# Altium footprint library ch9329.PcbLib: 1 footprints
Each footprint in its own frame and in the unit in brackets; x right, y up, seen from the top. Pads: shape width x height; smd on the part's side, far side on the other; paste and mask are expansions set on the pad; w line width, h text height; cw(c..) or ccw(c..) is an arc to the next point about the centre after c.
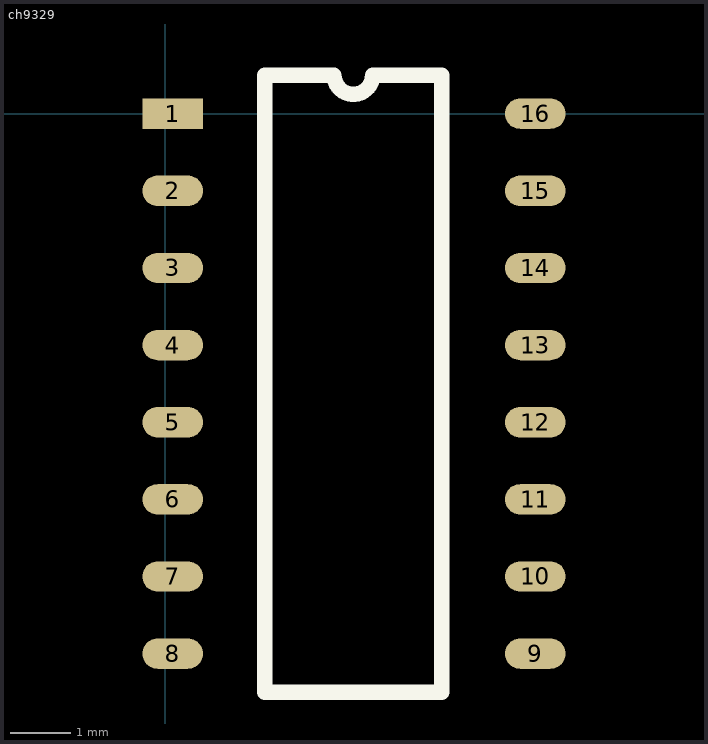
[diagram p0: the footprint, top view; thin cyan lines are the x and y axes]

## ch9329 [mm]
pads (16):
  rect 1x0.5 smd: 1(0.127,0)
  oval 1x0.5 smd: 2(0.127,-1.27) 3(0.127,-2.54) 4(0.127,-3.81) 5(0.127,-5.08) 6(0.127,-6.35) 7(0.127,-7.62) 8(0.127,-8.89) 9(6.096,-8.89) 10(6.096,-7.62) 11(6.096,-6.35) 12(6.096,-5.08) 13(6.096,-3.81) 14(6.096,-2.54) 15(6.096,-1.27) 16(6.096,0)
Top Overlay:
  lines w0.254: 1.643,-9.525 4.557,-9.525 4.557,0.635 3.417,0.635 cw(c3.1,0.635) 2.782,0.635 1.643,0.635 1.643,-9.525